# Altium schematic symbol library 691 253 600 0xx.SchLib: 2 symbols
Pins are listed as number, name and electrical type; pins without a type are passive.

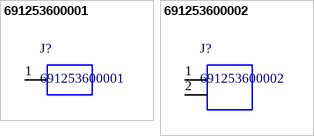
[diagram p0: symbols 691253600001 to 691253600002]

## 691253600001
designator J?
WR-TBL Vertical Cable Entry With Rising Cage Clamp,Serie 2536 - 10.16 mm; Manufacturer: Wurth Elektronik; ComponentLink1 Description: Manufacturer; ComponentLink2 Description: Datasheet; ComponentLink1URL: http://www.we-online.de; ComponentLink2URL: http://katalog.we-online.de/em/datasheet/6912536000xx.pdf; Created by: Baojun Chen; Created Date: 15.Sep.2015; partNo: 691253600001
footprint 691253600001 (Serie 2536 - 10.16 mm _ 1 pin)
pins: 1

## 691253600002
designator J?
WR-TBL Vertical Cable Entry With Rising Cage Clamp,Serie 2536 - 10.16 mm; Manufacturer: Wurth Elektronik; ComponentLink1 Description: Manufacturer; ComponentLink2 Description: Datasheet; ComponentLink1URL: http://www.we-online.de; ComponentLink2URL: http://katalog.we-online.de/em/datasheet/6912536000xx.pdf; Created by: Baojun Chen; Created Date: 15.Sep.2015; partNo: 691253600002
footprint 691253600002 (Serie 2536 - 10.16 mm _ 2 pins)
pins: 1, 2